# Altium schematic symbol library 22uH.SCHLIB: 1 symbol
Pins are listed as number, name and electrical type; pins without a type are passive.

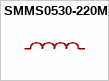
[diagram p0: symbol SMMS0530-220M]

## SMMS0530-220M
designator L??, comment 22uH  (value not drawn)
Manufacturer: SXN(顺翔诺); Symbol: SMMS0530-220M; Add into BOM: yes; Tolerance: ±20%; Rated Current: 1.8A; Saturation Current (Isat): 2A; DC Resistance (DCR): 394.8mΩ; Type: 一体成型电感; Device: SMMS0530-220M; LCSC Part Name: 22uH ±20% 2A; Supplier Part: C2842153; Manufacturer Part: SMMS0530-220M; Supplier Footprint: SMD,5.5x5.2x3mm; JLCPCB Part Class: Extended Part; Datasheet: https://atta.szlcsc.com/upload/public/pdf/source/20210810/BBF24330FB2F5029F637830BA9C42C0D.pdf; Supplier: LCSC; Convert to PCB: yes; Value: 22uH; Ratings: -
footprint IND-SMD_L5.5-W5.2
pins: 1, 2